# Altium schematic symbol library WE-SECF.SchLib: 22 symbols
Pins are listed as number, name and electrical type; pins without a type are passive.

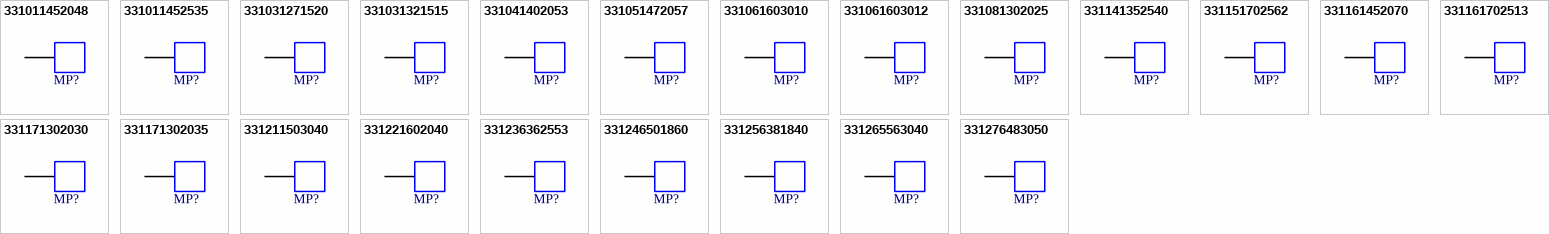
[diagram p0: symbols 331011452048 to 331276483050]

## 331011452048
designator MP?  (value not drawn)
WE-SECF SMT EMI Contact Finger, working height 4-4.5 mm; Manufacturer: Wurth Elektronik; Recommended Working Height Min: 4mm; Recommended Working Height Max: 4.5mm; Manufacturer Part Number: 331011452048; Category: EMC Shielding; Match Code: WE-SECF; ComponentLink1Description: Website Link; ComponentLink1URL: https://www.we-online.com/redexpert/article/331011452048?ad; ComponentLink2Description: Datasheet Link; ComponentLink2URL: https://www.we-online.com/redexpert/spec/331011452048?ad; Mount: Surface Mount; Operating Temperature Max: 100°C; Operating Temperature Min: -40°C; Packaging: Tape and Reel; Length: 4.5mm; Width: 2mm; Height: 4.8mm; Material: Copper Beryllium (CuBe) gold-plated(AU)
footprint 331011452048
pins: 1

## 331011452535
designator MP?  (value not drawn)
WE-SECF SMT EMI Contact Finger, working height 3-3.2 mm; Manufacturer: Wurth Elektronik; Recommended Working Height Min: 3mm; Recommended Working Height Max: 3.2mm; Manufacturer Part Number: 331011452535; Category: EMC Shielding; Match Code: WE-SECF; ComponentLink1Description: Website Link; ComponentLink1URL: https://www.we-online.com/redexpert/article/331011452535?ad; ComponentLink2Description: Datasheet Link; ComponentLink2URL: https://www.we-online.com/redexpert/spec/331011452535?ad; Mount: Surface Mount; Operating Temperature Max: 100°C; Operating Temperature Min: -40°C; Packaging: Tape and Reel; Length: 4.5mm; Width: 2.5mm; Height: 3.5mm; Material: Copper Beryllium (CuBe) gold-plated(AU)
footprint 331011452535
pins: 1

## 331031271520
designator MP?  (value not drawn)
WE-SECF SMT EMI Contact Finger, working height 1.6-1.7 mm; Manufacturer: Wurth Elektronik; Recommended Working Height Min: 1.6mm; Recommended Working Height Max: 1.7mm; Manufacturer Part Number: 331031271520; Category: EMC Shielding; Match Code: WE-SECF; ComponentLink1Description: Website Link; ComponentLink1URL: https://www.we-online.com/redexpert/article/331031271520?ad; ComponentLink2Description: Datasheet Link; ComponentLink2URL: https://www.we-online.com/redexpert/spec/331031271520?ad; Mount: Surface Mount; Operating Temperature Max: 100°C; Operating Temperature Min: -40°C; Packaging: Tape and Reel; Length: 2.7mm; Width: 1.5mm; Height: 2mm; Material: Copper Beryllium (CuBe) gold-plated(AU)
footprint 331031271520
pins: 1

## 331031321515
designator MP?  (value not drawn)
WE-SECF SMT EMI Contact Finger, working height 1-1.2 mm; Manufacturer: Wurth Elektronik; Recommended Working Height Min: 1mm; Recommended Working Height Max: 1.2mm; Manufacturer Part Number: 331031321515; Category: EMC Shielding; Match Code: WE-SECF; ComponentLink1Description: Website Link; ComponentLink1URL: https://www.we-online.com/redexpert/article/331031321515?ad; ComponentLink2Description: Datasheet Link; ComponentLink2URL: https://www.we-online.com/redexpert/spec/331031321515?ad; Mount: Surface Mount; Operating Temperature Max: 100°C; Operating Temperature Min: -40°C; Packaging: Tape and Reel; Length: 3.2mm; Width: 1.5mm; Height: 1.5mm; Material: Copper Beryllium (CuBe) gold-plated(AU)
footprint 331031321515
pins: 1

## 331041402053
designator MP?  (value not drawn)
WE-SECF SMT EMI Contact Finger, working height 4.4-5 mm; Manufacturer: Wurth Elektronik; Recommended Working Height Min: 4.4mm; Recommended Working Height Max: 5mm; Manufacturer Part Number: 331041402053; Category: EMC Shielding; Match Code: WE-SECF; ComponentLink1Description: Website Link; ComponentLink1URL: https://www.we-online.com/redexpert/article/331041402053?ad; ComponentLink2Description: Datasheet Link; ComponentLink2URL: https://www.we-online.com/redexpert/spec/331041402053?ad; Mount: Surface Mount; Operating Temperature Max: 100°C; Operating Temperature Min: -40°C; Packaging: Tape and Reel; Length: 4.1mm; Width: 2mm; Height: 5.3mm; Material: Copper Beryllium (CuBe) gold-plated(AU)
footprint 331041402053
pins: 1

## 331051472057
designator MP?  (value not drawn)
WE-SECF SMT EMI Contact Finger, working height 4.6-5.4 mm; Manufacturer: Wurth Elektronik; Recommended Working Height Min: 4.6mm; Recommended Working Height Max: 5.4mm; Manufacturer Part Number: 331051472057; Category: EMC Shielding; Match Code: WE-SECF; ComponentLink1Description: Website Link; ComponentLink1URL: https://www.we-online.com/redexpert/article/331051472057?ad; ComponentLink2Description: Datasheet Link; ComponentLink2URL: https://www.we-online.com/redexpert/spec/331051472057?ad; Mount: Surface Mount; Operating Temperature Max: 100°C; Operating Temperature Min: -40°C; Packaging: Tape and Reel; Length: 4.7mm; Width: 2mm; Height: 5.7mm; Material: Copper Beryllium (CuBe) gold-plated(AU)
footprint 331051472057
pins: 1

## 331061603010
designator MP?  (value not drawn)
WE-SECF SMT EMI Contact Finger, working height 8.3-9.7 mm; Manufacturer: Wurth Elektronik; Recommended Working Height Min: 8.3mm; Recommended Working Height Max: 9.7mm; Manufacturer Part Number: 331061603010; Category: EMC Shielding; Match Code: WE-SECF; ComponentLink1Description: Website Link; ComponentLink1URL: https://www.we-online.com/redexpert/article/331061603010?ad; ComponentLink2Description: Datasheet Link; ComponentLink2URL: https://www.we-online.com/redexpert/spec/331061603010?ad; Mount: Surface Mount; Operating Temperature Max: 100°C; Operating Temperature Min: -40°C; Packaging: Tape and Reel; Length: 6mm; Width: 3mm; Height: 10mm; Material: Copper Beryllium (CuBe) gold-plated(AU)
footprint 331061603010
pins: 1

## 331061603012
designator MP?  (value not drawn)
WE-SECF SMT EMI Contact Finger, working height 8-11.5 mm; Manufacturer: Wurth Elektronik; Recommended Working Height Min: 8mm; Recommended Working Height Max: 11.5mm; Manufacturer Part Number: 331061603012; Category: EMC Shielding; Match Code: WE-SECF; ComponentLink1Description: Website Link; ComponentLink1URL: https://www.we-online.com/redexpert/article/331061603012?ad; ComponentLink2Description: Datasheet Link; ComponentLink2URL: https://www.we-online.com/redexpert/spec/331061603012?ad; Mount: Surface Mount; Operating Temperature Max: 100°C; Operating Temperature Min: -40°C; Packaging: Tape and Reel; Length: 6mm; Width: 3mm; Height: 12mm; Material: Copper Beryllium (CuBe) gold-plated(AU)
footprint 331061603012
pins: 1

## 331081302025
designator MP?  (value not drawn)
WE-SECF SMT EMI Contact Finger, working height 2-2.2 mm; Manufacturer: Wurth Elektronik; Recommended Working Height Min: 2mm; Recommended Working Height Max: 2.2mm; Manufacturer Part Number: 331081302025; Category: EMC Shielding; Match Code: WE-SECF; ComponentLink1Description: Website Link; ComponentLink1URL: https://www.we-online.com/redexpert/article/331081302025?ad; ComponentLink2Description: Datasheet Link; ComponentLink2URL: https://www.we-online.com/redexpert/spec/331081302025?ad; Mount: Surface Mount; Operating Temperature Max: 100°C; Operating Temperature Min: -40°C; Packaging: Tape and Reel; Length: 3mm; Width: 2mm; Height: 2.5mm; Material: Copper Beryllium (CuBe) gold-plated(AU)
footprint 331081302025
pins: 1

## 331141352540
designator MP?  (value not drawn)
WE-SECF SMT EMI Contact Finger, working height 3.4-3.7 mm; Manufacturer: Wurth Elektronik; Recommended Working Height Min: 3.4mm; Recommended Working Height Max: 3.7mm; Manufacturer Part Number: 331141352540; Category: EMC Shielding; Match Code: WE-SECF; ComponentLink1Description: Website Link; ComponentLink1URL: https://www.we-online.com/redexpert/article/331141352540?ad; ComponentLink2Description: Datasheet Link; ComponentLink2URL: https://www.we-online.com/redexpert/spec/331141352540?ad; Mount: Surface Mount; Operating Temperature Max: 100°C; Operating Temperature Min: -40°C; Packaging: Tape and Reel; Length: 3.5mm; Width: 2.5mm; Height: 4mm; Material: Copper Beryllium (CuBe) gold-plated(AU)
footprint 331141352540
pins: 1

## 331151702562
designator MP?  (value not drawn)
WE-SECF SMT EMI Contact Finger, working height 5-5.9 mm; Manufacturer: Wurth Elektronik; Recommended Working Height Min: 5mm; Recommended Working Height Max: 5.9mm; Manufacturer Part Number: 331151702562; Category: EMC Shielding; Match Code: WE-SECF; ComponentLink1Description: Website Link; ComponentLink1URL: https://www.we-online.com/redexpert/article/331151702562?ad; ComponentLink2Description: Datasheet Link; ComponentLink2URL: https://www.we-online.com/redexpert/spec/331151702562?ad; Mount: Surface Mount; Operating Temperature Max: 100°C; Operating Temperature Min: -40°C; Packaging: Tape and Reel; Length: 7mm; Width: 2.5mm; Height: 6.2mm; Material: Copper Beryllium (CuBe) gold-plated(AU)
footprint 331151702562
pins: 1

## 331161452070
designator MP?  (value not drawn)
WE-SECF SMT EMI Contact Finger, working height 6-6.7 mm; Manufacturer: Wurth Elektronik; Recommended Working Height Min: 6mm; Recommended Working Height Max: 6.7mm; Manufacturer Part Number: 331161452070; Category: EMC Shielding; Match Code: WE-SECF; ComponentLink1Description: Website Link; ComponentLink1URL: https://www.we-online.com/redexpert/article/331161452070?ad; ComponentLink2Description: Datasheet Link; ComponentLink2URL: https://www.we-online.com/redexpert/spec/331161452070?ad; Mount: Surface Mount; Operating Temperature Max: 100°C; Operating Temperature Min: -40°C; Packaging: Tape and Reel; Length: 4.5mm; Width: 2mm; Height: 7mm; Material: Copper Beryllium (CuBe) gold-plated(AU)
footprint 331161452070
pins: 1

## 331161702513
designator MP?  (value not drawn)
WE-SECF SMT EMI Contact Finger, working height 10-12.5 mm; Manufacturer: Wurth Elektronik; Recommended Working Height Min: 10mm; Recommended Working Height Max: 12.5mm; Manufacturer Part Number: 331161702513; Category: EMC Shielding; Match Code: WE-SECF; ComponentLink1Description: Website Link; ComponentLink1URL: https://www.we-online.com/redexpert/article/331161702513?ad; ComponentLink2Description: Datasheet Link; ComponentLink2URL: https://www.we-online.com/redexpert/spec/331161702513?ad; Mount: Surface Mount; Operating Temperature Max: 100°C; Operating Temperature Min: -40°C; Packaging: Tape and Reel; Length: 7mm; Width: 2.5mm; Height: 13mm; Material: Copper Beryllium (CuBe) gold-plated(AU)
footprint 331161702513
pins: 1

## 331171302030
designator MP?  (value not drawn)
WE-SECF SMT EMI Contact Finger, working height 2.5-2.7 mm; Manufacturer: Wurth Elektronik; Recommended Working Height Min: 2.5mm; Recommended Working Height Max: 2.7mm; Manufacturer Part Number: 331171302030; Category: EMC Shielding; Match Code: WE-SECF; ComponentLink1Description: Website Link; ComponentLink1URL: https://www.we-online.com/redexpert/article/331171302030?ad; ComponentLink2Description: Datasheet Link; ComponentLink2URL: https://www.we-online.com/redexpert/spec/331171302030?ad; Mount: Surface Mount; Operating Temperature Max: 100°C; Operating Temperature Min: -40°C; Packaging: Tape and Reel; Length: 3mm; Width: 2mm; Height: 3mm; Material: Copper Beryllium (CuBe) gold-plated(AU)
footprint 331171302030
pins: 1

## 331171302035
designator MP?  (value not drawn)
WE-SECF SMT EMI Contact Finger, working height 3-3.2 mm; Manufacturer: Wurth Elektronik; Recommended Working Height Min: 3mm; Recommended Working Height Max: 3.2mm; Manufacturer Part Number: 331171302035; Category: EMC Shielding; Match Code: WE-SECF; ComponentLink1Description: Website Link; ComponentLink1URL: https://www.we-online.com/redexpert/article/331171302035?ad; ComponentLink2Description: Datasheet Link; ComponentLink2URL: https://www.we-online.com/redexpert/spec/331171302035?ad; Mount: Surface Mount; Operating Temperature Max: 100°C; Operating Temperature Min: -40°C; Packaging: Tape and Reel; Length: 3mm; Width: 2mm; Height: 3.5mm; Material: Copper Beryllium (CuBe) gold-plated(AU)
footprint 331171302035
pins: 1

## 331211503040
designator MP?  (value not drawn)
WE-SECF SMT EMI Contact Finger, working height 2.5-3.7 mm; Manufacturer: Wurth Elektronik; Recommended Working Height Min: 2.5mm; Recommended Working Height Max: 3.7mm; Manufacturer Part Number: 331211503040; Category: EMC Shielding; Match Code: WE-SECF; ComponentLink1Description: Website Link; ComponentLink1URL: https://www.we-online.com/redexpert/article/331211503040?ad; ComponentLink2Description: Datasheet Link; ComponentLink2URL: https://www.we-online.com/redexpert/spec/331211503040?ad; Mount: Surface Mount; Operating Temperature Max: 100°C; Operating Temperature Min: -40°C; Packaging: Tape and Reel; Length: 5mm; Width: 3mm; Height: 4mm; Material: Copper Beryllium (CuBe) gold-plated(AU)
footprint 331211503040
pins: 1

## 331221602040
designator MP?  (value not drawn)
WE-SECF SMT EMI Contact Finger, working height 5-5.7 mm; Manufacturer: Wurth Elektronik; Recommended Working Height Min: 5mm; Recommended Working Height Max: 5.7mm; Manufacturer Part Number: 331221602040; Category: EMC Shielding; Match Code: WE-SECF; ComponentLink1Description: Website Link; ComponentLink1URL: https://www.we-online.com/redexpert/article/331221602040?ad; ComponentLink2Description: Datasheet Link; ComponentLink2URL: https://www.we-online.com/redexpert/spec/331221602040?ad; Mount: Surface Mount; Operating Temperature Max: 100°C; Operating Temperature Min: -40°C; Packaging: Tape and Reel; Length: 6mm; Width: 2mm; Height: 4mm; Material: Copper Beryllium (CuBe) gold-plated(AU)
footprint 331221602040
pins: 1

## 331236362553
designator MP?  (value not drawn)
WE-SECF SMT EMI Contact Finger, working height 3.4-5 mm; Manufacturer: Wurth Elektronik; Recommended Working Height Min: 3.4mm; Recommended Working Height Max: 5mm; Manufacturer Part Number: 331236362553; Category: EMC Shielding; Match Code: WE-SECF; ComponentLink1Description: Website Link; ComponentLink1URL: https://www.we-online.com/redexpert/article/331236362553?ad; ComponentLink2Description: Datasheet Link; ComponentLink2URL: https://www.we-online.com/redexpert/spec/331236362553?ad; Mount: Surface Mount; Operating Temperature Max: 100°C; Operating Temperature Min: -40°C; Packaging: Tape and Reel; Length: 3.6mm; Width: 2.8mm; Height: 5.3mm; Material: Phosphor Bronze; nickel plated (Ni), tin plated (Sn) soldering area
footprint 331236362553
pins: 1

## 331246501860
designator MP?  (value not drawn)
WE-SECF SMT EMI Contact Finger, working height 3.7-5.8 mm; Manufacturer: Wurth Elektronik; Recommended Working Height Min: 3.7mm; Recommended Working Height Max: 5.8mm; Manufacturer Part Number: 331246501860; Category: EMC Shielding; Match Code: WE-SECF; ComponentLink1Description: Website Link; ComponentLink1URL: https://www.we-online.com/redexpert/article/331246501860?ad; ComponentLink2Description: Datasheet Link; ComponentLink2URL: https://www.we-online.com/redexpert/spec/331246501860?ad; Mount: Surface Mount; Operating Temperature Max: 100°C; Operating Temperature Min: -40°C; Packaging: Tape and Reel; Length: 5mm; Width: 2.6mm; Height: 6mm; Material: Phosphor Bronze; nickel plated (Ni), tin plated (Sn) soldering area
footprint 331246501860
pins: 1

## 331256381840
designator MP?  (value not drawn)
WE-SECF SMT EMI Contact Finger, working height 2.5-3.8 mm; Manufacturer: Wurth Elektronik; Recommended Working Height Min: 2.5mm; Recommended Working Height Max: 3.8mm; Manufacturer Part Number: 331256381840; Category: EMC Shielding; Match Code: WE-SECF; ComponentLink1Description: Website Link; ComponentLink1URL: https://www.we-online.com/redexpert/article/331256381840?ad; ComponentLink2Description: Datasheet Link; ComponentLink2URL: https://www.we-online.com/redexpert/spec/331256381840?ad; Mount: Surface Mount; Operating Temperature Max: 100°C; Operating Temperature Min: -40°C; Packaging: Tape and Reel; Length: 3.75mm; Width: 2.5mm; Height: 4mm; Material: Phosphor Bronze; nickel plated (Ni), tin plated (Sn) soldering area
footprint 331256381840
pins: 1

## 331265563040
designator MP?  (value not drawn)
WE-SECF SMT EMI Contact Finger, working height 2.2-3.4 mm; Manufacturer: Wurth Elektronik; Recommended Working Height Min: 2.2mm; Recommended Working Height Max: 3.4mm; Manufacturer Part Number: 331265563040; Category: EMC Shielding; Match Code: WE-SECF; ComponentLink1Description: Website Link; ComponentLink1URL: https://www.we-online.com/redexpert/article/331265563040?ad; ComponentLink2Description: Datasheet Link; ComponentLink2URL: https://www.we-online.com/redexpert/spec/331265563040?ad; Mount: Surface Mount; Operating Temperature Max: 100°C; Operating Temperature Min: -40°C; Packaging: Tape and Reel; Length: 5.6mm; Width: 3mm; Height: 4mm; Material: Copper Beryllium (CuBe); nickel-plated (Ni), tin plated (Sn) soldering area
footprint 331265563040
pins: 1

## 331276483050
designator MP?  (value not drawn)
WE-SECF SMT EMI Contact Finger, working height 2.1-4.8 mm; Manufacturer: Wurth Elektronik; Recommended Working Height Min: 2.1mm; Recommended Working Height Max: 4.8mm; Manufacturer Part Number: 331276483050; Category: EMC Shielding; Match Code: WE-SECF; ComponentLink1Description: Website Link; ComponentLink1URL: https://www.we-online.com/redexpert/article/331276483050?ad; ComponentLink2Description: Datasheet Link; ComponentLink2URL: https://www.we-online.com/redexpert/spec/331276483050?ad; Mount: Surface Mount; Operating Temperature Max: 100°C; Operating Temperature Min: -40°C; Packaging: Tape and Reel; Length: 4.9mm; Width: 3mm; Height: 5mm; Material: Phosphor Bronze; nickel plated (Ni), tin plated (Sn) soldering area
footprint 331276483050
pins: 1